# Altium footprint library 0.91-oled.PcbLib: 1 footprints
Each footprint in its own frame and in the unit in brackets; x right, y up, seen from the top. Pads: shape width x height; smd on the part's side, far side on the other; paste and mask are expansions set on the pad; w line width, h text height; cw(c..) or ccw(c..) is an arc to the next point about the centre after c.
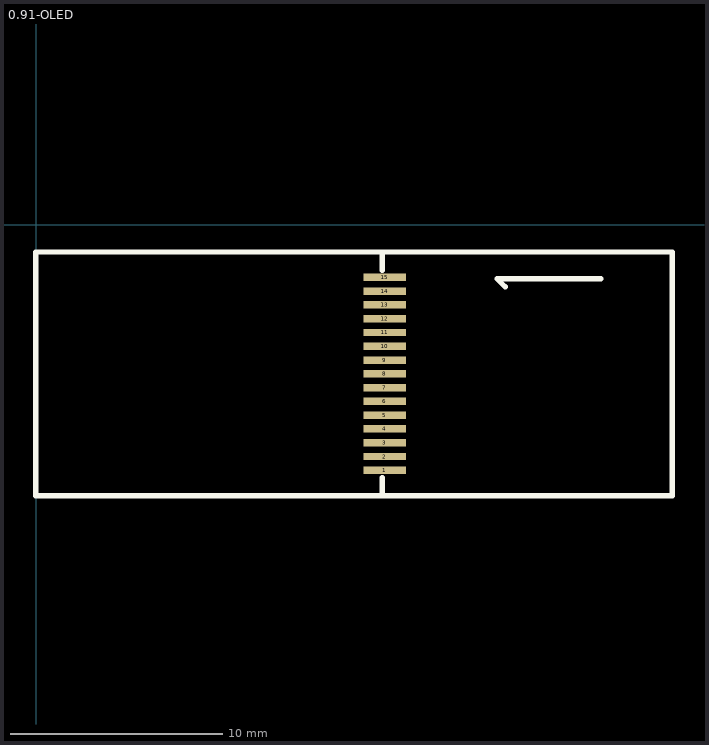
[diagram p0: the footprint, top view; thin cyan lines are the x and y axes]

## 0.91-OLED [mm]
pads (15):
  rect 2x0.35 smd: 1(16.423,-11.585) 2(16.423,-10.933) 3(16.423,-10.283) 4(16.423,-9.633) 5(16.423,-8.985) 6(16.423,-8.335) 7(16.423,-7.685) 8(16.423,-7.035) 9(16.423,-6.385) 10(16.423,-5.735) 11(16.423,-5.085) 12(16.423,-4.435) 13(16.423,-3.785) 14(16.423,-3.135) 15(16.423,-2.485)
Top Overlay:
  lines w0.254: 16.315,-12.794 16.315,-11.92 ; 16.315,-2.146 16.315,-1.298 ; 22.113,-2.934 21.732,-2.553 26.614,-2.553 ; -0.018,-12.791 29.982,-12.791 29.982,-1.291 -0.018,-1.291 -0.018,-12.791